# Altium footprint library JTAG_Channel_Selector.PcbLib: 1 footprints
Each footprint in its own frame and in the unit in brackets; x right, y up, seen from the top. Pads: shape width x height; smd on the part's side, far side on the other; paste and mask are expansions set on the pad; w line width, h text height; cw(c..) or ccw(c..) is an arc to the next point about the centre after c.
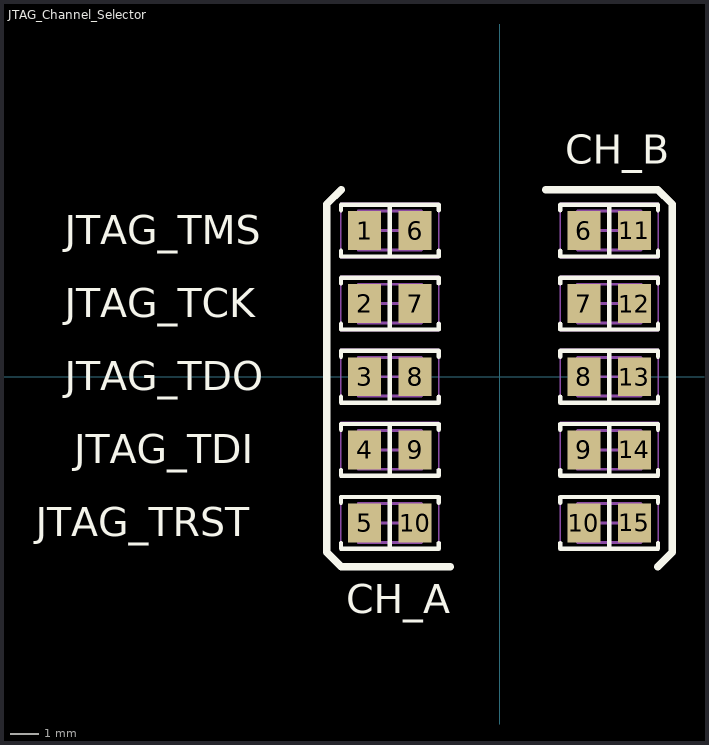
[diagram p0: the footprint, top view; thin cyan lines are the x and y axes]

## JTAG_Channel_Selector [mm]
pads (20):
  rect 1.15x1.35 smd: 1(-4.685,5.08) 2(-4.685,2.54) 3(-4.685,0) 4(-4.685,-2.54) 5(-4.685,-5.08) 6(-2.935,5.08) 6(2.935,5.08) 7(-2.935,2.54) 7(2.935,2.54) 8(-2.935,0) 8(2.935,0) 9(-2.935,-2.54) 9(2.935,-2.54) 10(-2.935,-5.08) 10(2.935,-5.08) 11(4.685,5.08) 12(4.685,2.54) 13(4.685,0) 14(4.685,-2.54) 15(4.685,-5.08)
Top Overlay:
  lines w0.15: -5.51,-5.78 -5.51,-5.98 -2.11,-5.98 -2.11,-5.78 ; -5.51,-4.38 -5.51,-4.18 -2.11,-4.18 -2.11,-4.38 ; -5.51,-3.24 -5.51,-3.44 -2.11,-3.44 -2.11,-3.24 ; -5.51,-1.84 -5.51,-1.64 -2.11,-1.64 -2.11,-1.84 ; -5.51,-0.7 -5.51,-0.9 -2.11,-0.9 -2.11,-0.7 ; -5.51,0.7 -5.51,0.9 -2.11,0.9 -2.11,0.7 ; -5.51,1.84 -5.51,1.64 -2.11,1.64 -2.11,1.84 ; -5.51,3.24 -5.51,3.44 -2.11,3.44 -2.11,3.24 ; -5.51,4.38 -5.51,4.18 -2.11,4.18 -2.11,4.38 ; -5.51,5.78 -5.51,5.98 -2.11,5.98 -2.11,5.78 ; -3.81,-5.98 -3.81,-4.18 ; -3.81,-3.44 -3.81,-1.64 ; -3.81,-0.9 -3.81,0.9 ; -3.81,1.64 -3.81,3.44 ; -3.81,4.18 -3.81,5.98 ; 2.11,-5.78 2.11,-5.98 5.51,-5.98 5.51,-5.78 ; 2.11,-4.38 2.11,-4.18 5.51,-4.18 5.51,-4.38 ; 2.11,-3.24 2.11,-3.44 5.51,-3.44 5.51,-3.24 ; 2.11,-1.84 2.11,-1.64 5.51,-1.64 5.51,-1.84 ; 2.11,-0.7 2.11,-0.9 5.51,-0.9 5.51,-0.7 ; 2.11,0.7 2.11,0.9 5.51,0.9 5.51,0.7 ; 2.11,1.84 2.11,1.64 5.51,1.64 5.51,1.84 ; 2.11,3.24 2.11,3.44 5.51,3.44 5.51,3.24 ; 2.11,4.38 2.11,4.18 5.51,4.18 5.51,4.38 ; 2.11,5.78 2.11,5.98 5.51,5.98 5.51,5.78 ; 3.81,-5.98 3.81,-4.18 ; 3.81,-3.44 3.81,-1.64 ; 3.81,-0.9 3.81,0.9 ; 3.81,1.64 3.81,3.44 ; 3.81,4.18 3.81,5.98
  lines w0.254: -5.5,6.5 -6,6 -6,-6.1 -5.5,-6.6 -1.7,-6.6 ; 1.6,6.5 5.5,6.5 6,6 6,-6.1 5.5,-6.6
  text "JTAG_TMS" at -15.113,4.612 h1
  text "JTAG_TRST" at -16.113,-5.548 h1
  text "JTAG_TDI" at -14.78,-3.008 h1
  text "JTAG_TDO" at -15.113,-0.468 h1
  text "JTAG_TCK" at -15.113,2.072 h1
  text "CH_B" at 2.286,7.406 h1
  text "CH_A" at -5.334,-8.215 h1
Mechanical 13:
  lines w0.1: -4.91,-5.755 -4.91,-4.405 -2.71,-4.405 -2.71,-5.755 -4.91,-5.755 ; -4.91,-3.215 -4.91,-1.865 -2.71,-1.865 -2.71,-3.215 -4.91,-3.215 ; -4.91,-0.675 -4.91,0.675 -2.71,0.675 -2.71,-0.675 -4.91,-0.675 ; -4.91,1.865 -4.91,3.215 -2.71,3.215 -2.71,1.865 -4.91,1.865 ; -4.91,4.405 -2.71,4.405 -2.71,5.755 -4.91,5.755 -4.91,4.405 ; 2.71,-5.755 4.91,-5.755 4.91,-4.405 2.71,-4.405 2.71,-5.755 ; 2.71,-3.215 4.91,-3.215 4.91,-1.865 2.71,-1.865 2.71,-3.215 ; 2.71,-0.675 2.71,0.675 4.91,0.675 4.91,-0.675 2.71,-0.675 ; 2.71,1.865 2.71,3.215 4.91,3.215 4.91,1.865 2.71,1.865 ; 2.71,4.405 2.71,5.755 4.91,5.755 4.91,4.405 2.71,4.405
Mechanical 15:
  lines w0.05: -5.51,-6.03 -5.51,-4.13 -2.11,-4.13 -2.11,-6.03 -5.51,-6.03 ; -5.51,-3.49 -5.51,-1.59 -2.11,-1.59 -2.11,-3.49 -5.51,-3.49 ; -5.51,-0.95 -5.51,0.95 -2.11,0.95 -2.11,-0.95 -5.51,-0.95 ; -5.51,1.59 -5.51,3.49 -2.11,3.49 -2.11,1.59 -5.51,1.59 ; -5.51,4.13 -2.11,4.13 -2.11,6.03 -5.51,6.03 -5.51,4.13 ; 2.11,-6.03 2.11,-4.13 5.51,-4.13 5.51,-6.03 2.11,-6.03 ; 2.11,-3.49 2.11,-1.59 5.51,-1.59 5.51,-3.49 2.11,-3.49 ; 2.11,-0.95 5.51,-0.95 5.51,0.95 2.11,0.95 2.11,-0.95 ; 2.11,1.59 2.11,3.49 5.51,3.49 5.51,1.59 2.11,1.59 ; 2.11,4.13 2.11,6.03 5.51,6.03 5.51,4.13 2.11,4.13
  lines w0.1: -4.31,-5.08 -3.31,-5.08 ; -4.31,-2.54 -3.31,-2.54 ; -4.31,0 -3.31,0 ; -4.31,2.54 -3.31,2.54 ; -4.31,5.08 -3.31,5.08 ; -3.81,-5.58 -3.81,-4.58 ; -3.81,-3.04 -3.81,-2.04 ; -3.81,-0.5 -3.81,0.5 ; -3.81,2.04 -3.81,3.04 ; -3.81,4.58 -3.81,5.58 ; 3.31,-5.08 4.31,-5.08 ; 3.31,-2.54 4.31,-2.54 ; 3.31,0 4.31,0 ; 3.31,2.54 4.31,2.54 ; 3.31,5.08 4.31,5.08 ; 3.81,-5.58 3.81,-4.58 ; 3.81,-3.04 3.81,-2.04 ; 3.81,-0.5 3.81,0.5 ; 3.81,2.04 3.81,3.04 ; 3.81,4.58 3.81,5.58
3D body "0805 resistor.STEP": height 0.6, standoff 0, extent -4.81,4.455 -2.81,5.705
3D body "0805 resistor.STEP": height 0.6, standoff 0, extent 2.81,-5.705 4.81,-4.455
3D body "0805 resistor.STEP": height 0.6, standoff 0, extent 2.81,-3.165 4.81,-1.915
3D body "0805 resistor.STEP": height 0.6, standoff 0, extent 2.81,-0.625 4.81,0.625
3D body "0805 resistor.STEP": height 0.6, standoff 0, extent 2.81,1.915 4.81,3.165
3D body "0805 resistor.STEP": height 0.6, standoff 0, extent 2.81,4.455 4.81,5.705
3D body "0805 resistor.STEP": height 0.6, standoff 0, extent -4.81,1.915 -2.81,3.165
3D body "0805 resistor.STEP": height 0.6, standoff 0, extent -4.81,-0.625 -2.81,0.625
3D body "0805 resistor.STEP": height 0.6, standoff 0, extent -4.81,-3.165 -2.81,-1.915
3D body "0805 resistor.STEP": height 0.6, standoff 0, extent -4.81,-5.705 -2.81,-4.455